# EAGLE library part LCD_2X16_SIL (library project_2)
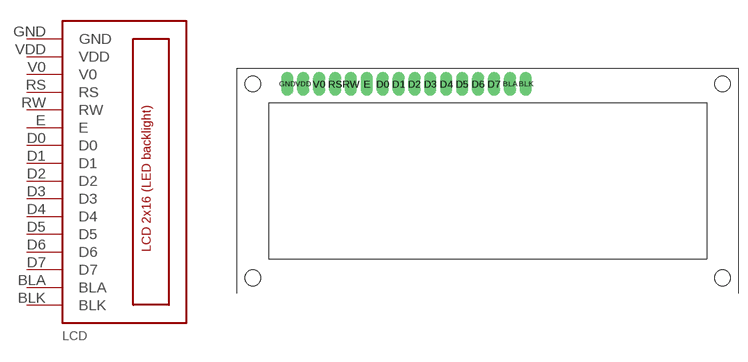
[diagram p4: symbol with the pads of HY-1602F; footprint HY-1602F]

Designator prefix LCD

## LCD_2X16_SIL  [HY-1602F]
BLA  BLA
BLK  BLK
D0  D0
D1  D1
D2  D2
D3  D3
D4  D4
D5  D5
D6  D6
D7  D7
E  E  in
GND  GND  pwr
RS  RS  in
RW  RW  in
V0  V0  in
VDD  VDD  pwr

## Footprint HY-1602F (pad centres in mm)
drill 1 pad 1.93 long: BLA 38.1,0; BLK 40.64,0; D0 17.78,0; D1 20.32,0; D2 22.86,0; D3 25.4,0; D4 27.94,0; D5 30.48,0; D6 33.02,0; D7 35.56,0; E 15.24,0; GND 2.54,0; RS 10.16,0; RW 12.7,0; V0 7.62,0; VDD 5.08,0
hole 2.5 at -2.96,0
hole 2.5 at 72.04,0
hole 2.5 at -2.96,-31
hole 2.5 at 72.04,-31